# Altium schematic symbol library Private.SchLib: 7 symbols
Pins are listed as number, name and electrical type; pins without a type are passive.

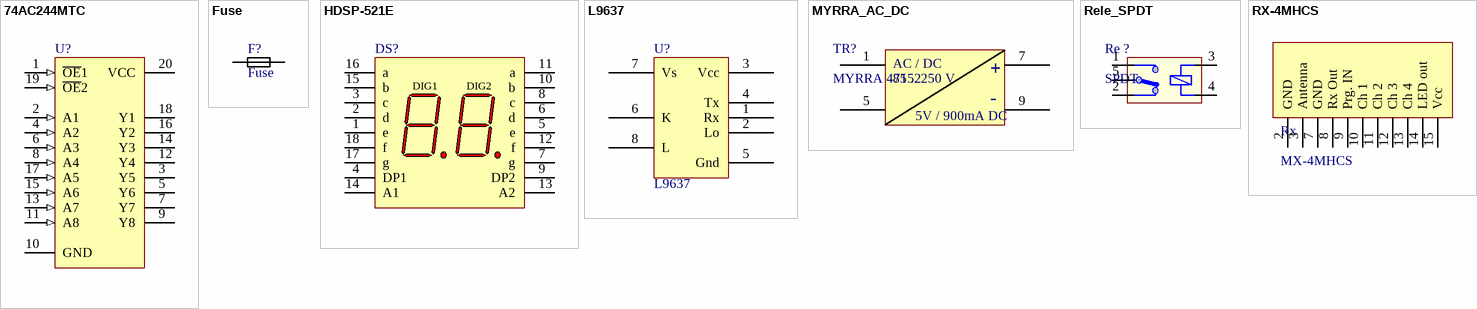
[diagram p0: symbols 74AC244MTC to RX-4MHCS]

## 74AC244MTC
designator U?
Octal Buffer/Line Driver with 3-State Output; Package Information: Latest Revision: 2000; Published: 17-Jul-2002; Datasheet: Latest Revision: Nov-1999; Package Reference: MTC20; Publisher: Altium Limited
footprint N20A (DIP; 20 Leads; Row Spacing 7.62 mm; Pitch 2.54 mm)
footprint M20B (Small Outline; 20 Leads; Body Width 7.5 mm; Pitch 1.27 mm)
footprint M20D (Small Outline; 20 Leads; Body Width 5.3 mm; Pitch 1.27 mm)
pins: 1 ~{OE}1 (in), 2 A1 (in), 3 Y5 (hiz), 4 A2 (in), 5 Y6 (hiz), 6 A3 (in), 7 Y7 (hiz), 8 A4 (in), 9 Y8 (hiz), 10 GND (power), 11 A8 (in), 12 Y4 (hiz), 13 A7 (in), 14 Y3 (hiz), 15 A6 (in), 16 Y2 (hiz), 17 A5 (in), 18 Y1 (hiz), 19 ~{OE}2 (in), 20 VCC (power)

## Fuse
designator F?
footprint AXIAL-0.5L (Semiconductor Resistor; 2 Leads)
pins: 1, 2

## HDSP-521E
designator DS?
14.22 mm Gray Surface General Purpose HER 7-Segment Display: 2-Digit, CA, RH DP; LuminousIntensity: 2280 ucd (Minimum).; LED_Colour: High Efficiency Red (HER); Published: 26-May-2004; LatestRevisionDate: 11-Oct-2004; LatestRevisionNote: Display outline superimposed on PCB Footprint.; DatasheetDocument: 09-Jan-2002; PackageDocument: 09-Jan-2002; PackageReference: K-18; Publisher: Altium Limited; ComponentLink1Description: Manufacturer Link; ComponentLink1URL: http://www.semiconductor.agilent.com/; ComponentLink2Description: Datasheet; ComponentLink2URL: http://cp.literature.agilent.com/litweb/pdf/5988-5378EN.pdf
footprint K-18 (LED, 7-Segment Display, 14.22 mm, Dual Digit; 18 Leads; Row Space 15.24 mm; Pitch 2.54 mm)
pins: 1 e "Digit 1 e Cathode", 2 d "Digit 1 d Cathode", 3 c "Digit 1 c Cathode", 4 DP1 "Digit 1 DP Cathode", 5 e "Digit 2 e Cathode", 6 d "Digit 2 d Cathode", 7 g "Digit 2 g Cathode", 8 c "Digit 2 c Cathode", 9 DP2 "Digit 2 DP Cathode", 10 b "Digit 2 b Cathode", 11 a "Digit 2 a Cathode", 12 f "Digit 2 f Cathode", 13 A2 "Digit 2  Common Anode", 14 A1 "Digit 1 Common Anode", 15 b "Digit 1 b Cathode", 16 a "Digit 1 a Cathode", 17 g "Digit 1 g Cathode", 18 f "Digit 1 f Cathode"
text: DIG1; DIG2

## L9637
designator U?
pins: 1 Rx, 2 Lo, 3 Vcc, 4 Tx, 5 Gnd, 6 K, 7 Vs, 8 L

## MYRRA_AC_DC
designator TR?, comment MYRRA 47152
AC/DC  IN:85..260 V AC(DC), OUT: 5V/900mA DC
footprint Myrra47000 (AC/DC converter Myrra 47000 series)
pins: 1, 5, 7, 9
text: AC / DC; +; 85 .. 250 V; -; 5V / 900mA DC

## Rele_SPDT
designator Re ?, comment SPDT
rele SPDT
footprint Rele_JS-K (Rele - K contacts configuration)
pins: 1, 2, 3, 4, 5

## RX-4MHCS
designator Rx, comment MX-4MHCS
footprint RX-4MHCS (433MHz 4 channels receiver)
pins: 2 GND, 3 Antenna, 7 GND, 8 Rx Out, 9 Prg. IN, 10 Ch 1, 11 Ch 2, 12 Ch 3, 13 Ch 4, 14 LED out, 15 Vcc